# Altium schematic symbol library EL-sense_Sensor_Interface.SchLib: 1 symbol
Pins are listed as number, name and electrical type; pins without a type are passive.

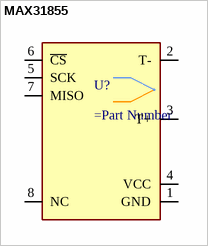
[diagram p0: symbol MAX31855]

## MAX31855
designator U?
pins: 1 GND, 2 T-, 3 T+, 4 VCC, 5 SCK, 6 ~{CS}, 7 MISO, 8 NC